# EAGLE library part LOGIC,MONOSTABLE,DUAL:MC74HC4538A (library QuantumOptics)
Monostable Multivibrator, dual, 74CH or CD4000 families, ON Semi or TI or Fairchild, xx4538 variant only, different pinout for xx14538. http://www.onsemi.com/PowerSolutions/product.do?id=MC74HC4538ADG, http://www.fairchildsemi.com/ds/CD%2FCD4538BC.pdf
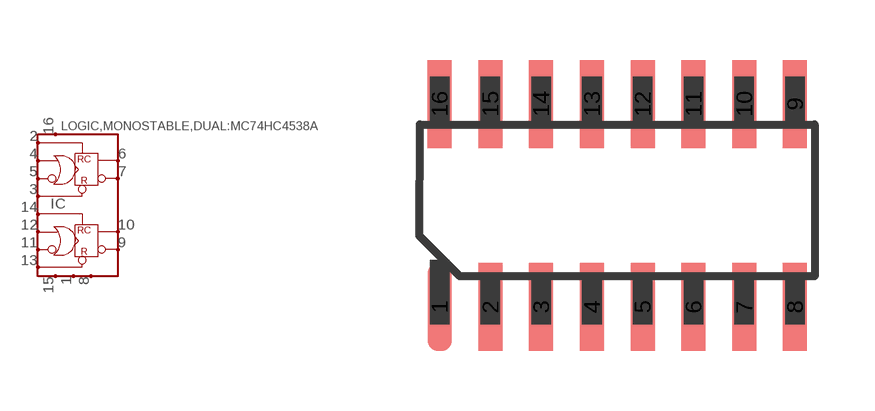
[diagram p115: symbol with the pads of SOIC-16; footprint SOIC-16]

Designator prefix IC

## LOGIC,MONOSTABLE,DUAL:MC74HC4538A-SOIC16  [SOIC-16]
1  COM1
2  RC1  in
3  RST1  in
4  A1  in
5  B1  in
6  Q1  out
7  ~Q1  out
8  COM2
9  ~Q2  out
10  Q2  out
11  B2  in
12  A2  in
13  RST2  in
14  RC2  in
15  COM3
16  VCC

## Footprint SOIC-16 (pad centres in mm)
SOIC-16, 0.05" pad spacing with 0.15" wide case.
smd 0.6 x 2.2: 1 -3.81,-2.54; 2 -2.54,-2.54; 3 -1.27,-2.54; 4 0,-2.54; 5 1.27,-2.54; 6 2.54,-2.54; 7 3.81,-2.54; 8 5.08,-2.54; 9 5.08,2.54; 10 3.81,2.54; 11 2.54,2.54; 12 1.27,2.54; 13 0,2.54; 14 -1.27,2.54; 15 -2.54,2.54; 16 -3.81,2.54